# EAGLE library part MICROBUILDER_HEADER-1X6 (library main_library)
PIN HEADER
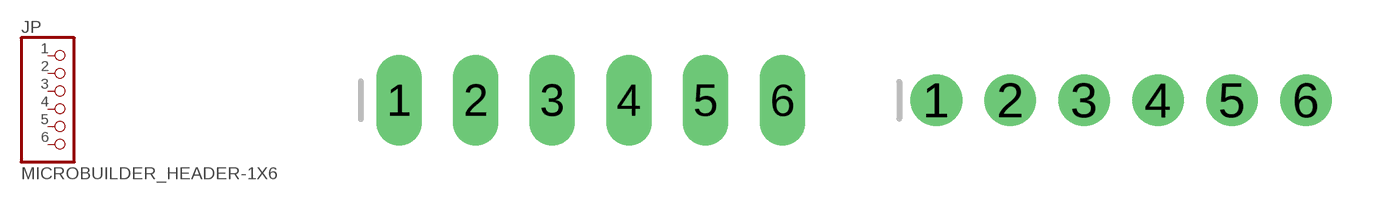
[diagram p0: symbol with the pads of MICROBUILDER_1X06_OVAL; footprints MICROBUILDER_1X06_OVAL, MICROBUILDER_1X06_ROUND_70]

Designator prefix JP

## MICROBUILDER_HEADER-1X6  [MICROBUILDER_1X06_OVAL]
1  1  pas
2  2  pas
3  3  pas
4  4  pas
5  5  pas
6  6  pas

## MICROBUILDER_HEADER-1X670MIL  [MICROBUILDER_1X06_ROUND_70]
Pads as for MICROBUILDER_1X06_OVAL

## MICROBUILDER_HEADER-1X676MIL  [MICROBUILDER_1X06_ROUND_76]
Pads as for MICROBUILDER_1X06_OVAL

## MICROBUILDER_HEADER-1X676MIL_FULLROUND  [MICROBUILDER_1X06_ROUND_FULL_76]
Pads as for MICROBUILDER_1X06_OVAL

## MICROBUILDER_HEADER-1X620609  [MICROBUILDER_1X06_SMT_4UCON_20609]
Pads as for MICROBUILDER_1X06_OVAL

## MICROBUILDER_HEADER-1X620609_MP  [MICROBUILDER_1X06_SMT_4UCON_20609_MICRO]
Pads as for MICROBUILDER_1X06_OVAL

## MICROBUILDER_HEADER-1X6ROUND  [MICROBUILDER_1X06_ROUND]
Pads as for MICROBUILDER_1X06_OVAL

## MICROBUILDER_HEADER-1X6SMT  [MICROBUILDER_1X06_SMT_4UCON_06676]
Pads as for MICROBUILDER_1X06_OVAL

## Footprint MICROBUILDER_1X06_OVAL (pad centres in mm)
PIN HEADER
drill 1 long: 1 -6.35,0; 2 -3.81,0; 3 -1.27,0; 4 1.27,0; 5 3.81,0; 6 6.35,0

## Footprint MICROBUILDER_1X06_ROUND_70 (pad centres in mm)
drill 1 pad 1.778: 1 -6.35,0; 2 -3.81,0; 3 -1.27,0; 4 1.27,0; 5 3.81,0; 6 6.35,0

## Footprint MICROBUILDER_1X06_ROUND_76 (pad centres in mm)
drill 1 pad 1.93: 1 -6.35,0; 2 -3.81,0; 3 -1.27,0; 4 1.27,0; 5 3.81,0; 6 6.35,0

## Footprint MICROBUILDER_1X06_ROUND_FULL_76 (pad centres in mm)
drill 1 pad 1.93: 1 -6.35,0; 2 -3.81,0; 3 -1.27,0; 4 1.27,0; 5 3.81,0; 6 6.35,0

## Footprint MICROBUILDER_1X06_SMT_4UCON_20609 (pad centres in mm)
smd 1.02 x 2.75: 1 -6.35,-1.375; 2 -3.81,1.375; 3 -1.27,-1.375; 4 1.27,1.375; 5 3.81,-1.375; 6 6.35,1.375

## Footprint MICROBUILDER_1X06_SMT_4UCON_20609_MICRO (pad centres in mm)
smd 1.02 x 2.1: 1 -6.35,-1.375; 2 -3.81,1.375; 3 -1.27,-1.375; 4 1.27,1.375; 5 3.81,-1.375; 6 6.35,1.375

## Footprint MICROBUILDER_1X06_ROUND (pad centres in mm)
PIN HEADER
drill 1 pad 1.676: 1 -6.35,0; 2 -3.81,0; 3 -1.27,0; 4 1.27,0; 5 3.81,0; 6 6.35,0

## Footprint MICROBUILDER_1X06_SMT_4UCON_06676 (pad centres in mm)
Pin Headers 6 Pin, 0.1"/2.54mm pitch, SMT 4UCON: 06676
smd 1 x 2.5: 1 -6.35,1.52; 2 -3.81,-1.52; 3 -1.27,1.52; 4 1.27,-1.52; 5 3.81,1.52; 6 6.35,-1.52